# EAGLE library part SAM9708 (library atmel)
SAM9708 DREAM 128 Voice Synthesizer
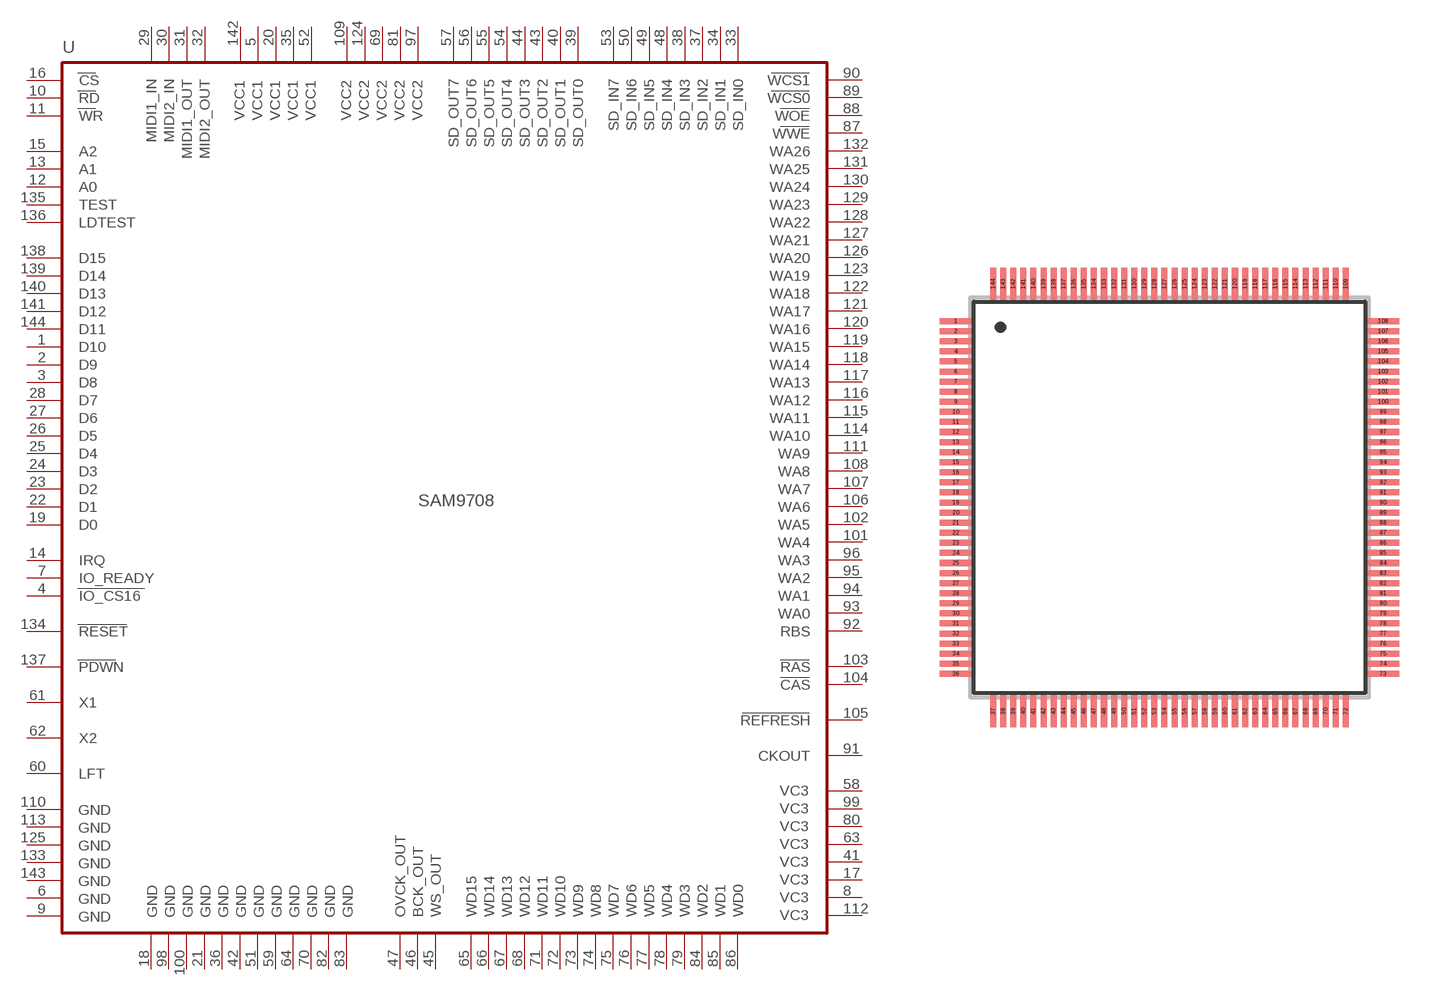
[diagram p48: symbol with the pads of TQFP144; footprint TQFP144]

Designator prefix U

## SAM9708  [TQFP144]
1  D10  in
2  D9  in
3  D8  in
4  IO_CS16
5  VCC1  pwr
6  GND  pwr
7  IO_READY
8  VC3  pwr
9  GND  pwr
10  RD  in
11  WR  in
12  A0  in
13  A1  in
14  IRQ
15  A2  in
16  CS  in
17  VC3  pwr
18  GND  pwr
19  D0  in
20  VCC1  pwr
21  GND  pwr
22  D1  in
23  D2  in
24  D3  in
25  D4  in
26  D5  in
27  D6  in
28  D7  in
29  MIDI1_IN
30  MIDI2_IN
31  MIDI1_OUT
32  MIDI2_OUT
33  SD_IN0  in
34  SD_IN1  in
35  VCC1  pwr
36  GND  pwr
37  SD_IN2  in
38  SD_IN3  in
39  SD_OUT0  out
40  SD_OUT1  out
41  VC3  pwr
42  GND  pwr
43  SD_OUT2  out
44  SD_OUT3  out
45  WS_OUT
46  BCK_OUT
47  OVCK_OUT
48  SD_IN4  in
49  SD_IN5  in
50  SD_IN6  in
51  GND  pwr
52  VCC1  pwr
53  SD_IN7  in
54  SD_OUT4  out
55  SD_OUT5  out
56  SD_OUT6  out
57  SD_OUT7  out
58  VC3  pwr
59  GND  pwr
60  LFT
61  X1
62  X2
63  VC3  pwr
64  GND  pwr
65  WD15
66  WD14
67  WD13
68  WD12
69  VCC2  pwr
70  GND  pwr
71  WD11
72  WD10
73  WD9
74  WD8
75  WD7
76  WD6
77  WD5
78  WD4
79  WD3
80  VC3  pwr
81  VCC2  pwr
82  GND  pwr
83  GND  pwr
84  WD2
85  WD1
86  WD0
87  WWE
88  WOE
89  WCS0
90  WCS1
91  CKOUT
92  RBS
93  WA0
94  WA1
95  WA2
96  WA3
97  VCC2  pwr
98  GND  pwr
99  VC3  pwr
100  GND  pwr
101  WA4
102  WA5
103  RAS
104  CAS
105  REFRESH
106  WA6
107  WA7
108  WA8
109  VCC2  pwr
110  GND  pwr
111  WA9
112  VC3  pwr
113  GND  pwr
114  WA10
115  WA11
116  WA12
117  WA13
118  WA14
119  WA15
120  WA16
121  WA17
122  WA18
123  WA19
124  VCC2  pwr
125  GND  pwr
126  WA20
127  WA21
128  WA22
129  WA23
130  WA24
131  WA25
132  WA26
133  GND  pwr
134  RESET  in
135  TEST  in
136  LDTEST  in
137  PDWN  in
138  D15  in
139  D14  in
140  D13  in
141  D12  in
142  VCC1  pwr
143  GND  pwr
144  D11  in

## Footprint TQFP144 (pad centres in mm)
QFP144 shrink quad flat pack, square (smd-ipc)
smd 1.6 x 0.3: 1 -10.6,8.75; 2 -10.6,8.25; 3 -10.6,7.75; 4 -10.6,7.25; 5 -10.6,6.75; 6 -10.6,6.25; 7 -10.6,5.75; 8 -10.6,5.25; 9 -10.6,4.75; 10 -10.6,4.25; 11 -10.6,3.75; 12 -10.6,3.25; 13 -10.6,2.75; 14 -10.6,2.25; 15 -10.6,1.75; 16 -10.6,1.25; 17 -10.6,0.75; 18 -10.6,0.25; 19 -10.6,-0.25; 20 -10.6,-0.75; 21 -10.6,-1.25; 22 -10.6,-1.75; 23 -10.6,-2.25; 24 -10.6,-2.75; 25 -10.6,-3.25; 26 -10.6,-3.75; 27 -10.6,-4.25; 28 -10.6,-4.75; 29 -10.6,-5.25; 30 -10.6,-5.75; 31 -10.6,-6.25; 32 -10.6,-6.75; 33 -10.6,-7.25; 34 -10.6,-7.75; 35 -10.6,-8.25; 36 -10.6,-8.75; 73 10.6,-8.75; 74 10.6,-8.25; 75 10.6,-7.75; 76 10.6,-7.25; 77 10.6,-6.75; 78 10.6,-6.25; 79 10.6,-5.75; 80 10.6,-5.25; 81 10.6,-4.75; 82 10.6,-4.25; 83 10.6,-3.75; 84 10.6,-3.25; 85 10.6,-2.75; 86 10.6,-2.25; 87 10.6,-1.75; 88 10.6,-1.25; 89 10.6,-0.75; 90 10.6,-0.25; 91 10.6,0.25; 92 10.6,0.75; 93 10.6,1.25; 94 10.6,1.75; 95 10.6,2.25; 96 10.6,2.75; 97 10.6,3.25; 98 10.6,3.75; 99 10.6,4.25; 100 10.6,4.75; 101 10.6,5.25; 102 10.6,5.75; 103 10.6,6.25; 104 10.6,6.75; 105 10.6,7.25; 106 10.6,7.75; 107 10.6,8.25; 108 10.6,8.75
smd 0.3 x 1.6: 37 -8.75,-10.6; 38 -8.25,-10.6; 39 -7.75,-10.6; 40 -7.25,-10.6; 41 -6.75,-10.6; 42 -6.25,-10.6; 43 -5.75,-10.6; 44 -5.25,-10.6; 45 -4.75,-10.6; 46 -4.25,-10.6; 47 -3.75,-10.6; 48 -3.25,-10.6; 49 -2.75,-10.6; 50 -2.25,-10.6; 51 -1.75,-10.6; 52 -1.25,-10.6; 53 -0.75,-10.6; 54 -0.25,-10.6; 55 0.25,-10.6; 56 0.75,-10.6; 57 1.25,-10.6; 58 1.75,-10.6; 59 2.25,-10.6; 60 2.75,-10.6; 61 3.25,-10.6; 62 3.75,-10.6; 63 4.25,-10.6; 64 4.75,-10.6; 65 5.25,-10.6; 66 5.75,-10.6; 67 6.25,-10.6; 68 6.75,-10.6; 69 7.25,-10.6; 70 7.75,-10.6; 71 8.25,-10.6; 72 8.75,-10.6; 109 8.75,10.6; 110 8.25,10.6; 111 7.75,10.6; 112 7.25,10.6; 113 6.75,10.6; 114 6.25,10.6; 115 5.75,10.6; 116 5.25,10.6; 117 4.75,10.6; 118 4.25,10.6; 119 3.75,10.6; 120 3.25,10.6; 121 2.75,10.6; 122 2.25,10.6; 123 1.75,10.6; 124 1.25,10.6; 125 0.75,10.6; 126 0.25,10.6; 127 -0.25,10.6; 128 -0.75,10.6; 129 -1.25,10.6; 130 -1.75,10.6; 131 -2.25,10.6; 132 -2.75,10.6; 133 -3.25,10.6; 134 -3.75,10.6; 135 -4.25,10.6; 136 -4.75,10.6; 137 -5.25,10.6; 138 -5.75,10.6; 139 -6.25,10.6; 140 -6.75,10.6; 141 -7.25,10.6; 142 -7.75,10.6; 143 -8.25,10.6; 144 -8.75,10.6